# Altium footprint library Componentes.PcbLib: 20 footprints (part 1 of 2)
Each footprint in its own frame and in the unit in brackets; x right, y up, seen from the top. Pads: shape width x height; smd on the part's side, far side on the other; paste and mask are expansions set on the pad; w line width, h text height; cw(c..) or ccw(c..) is an arc to the next point about the centre after c.
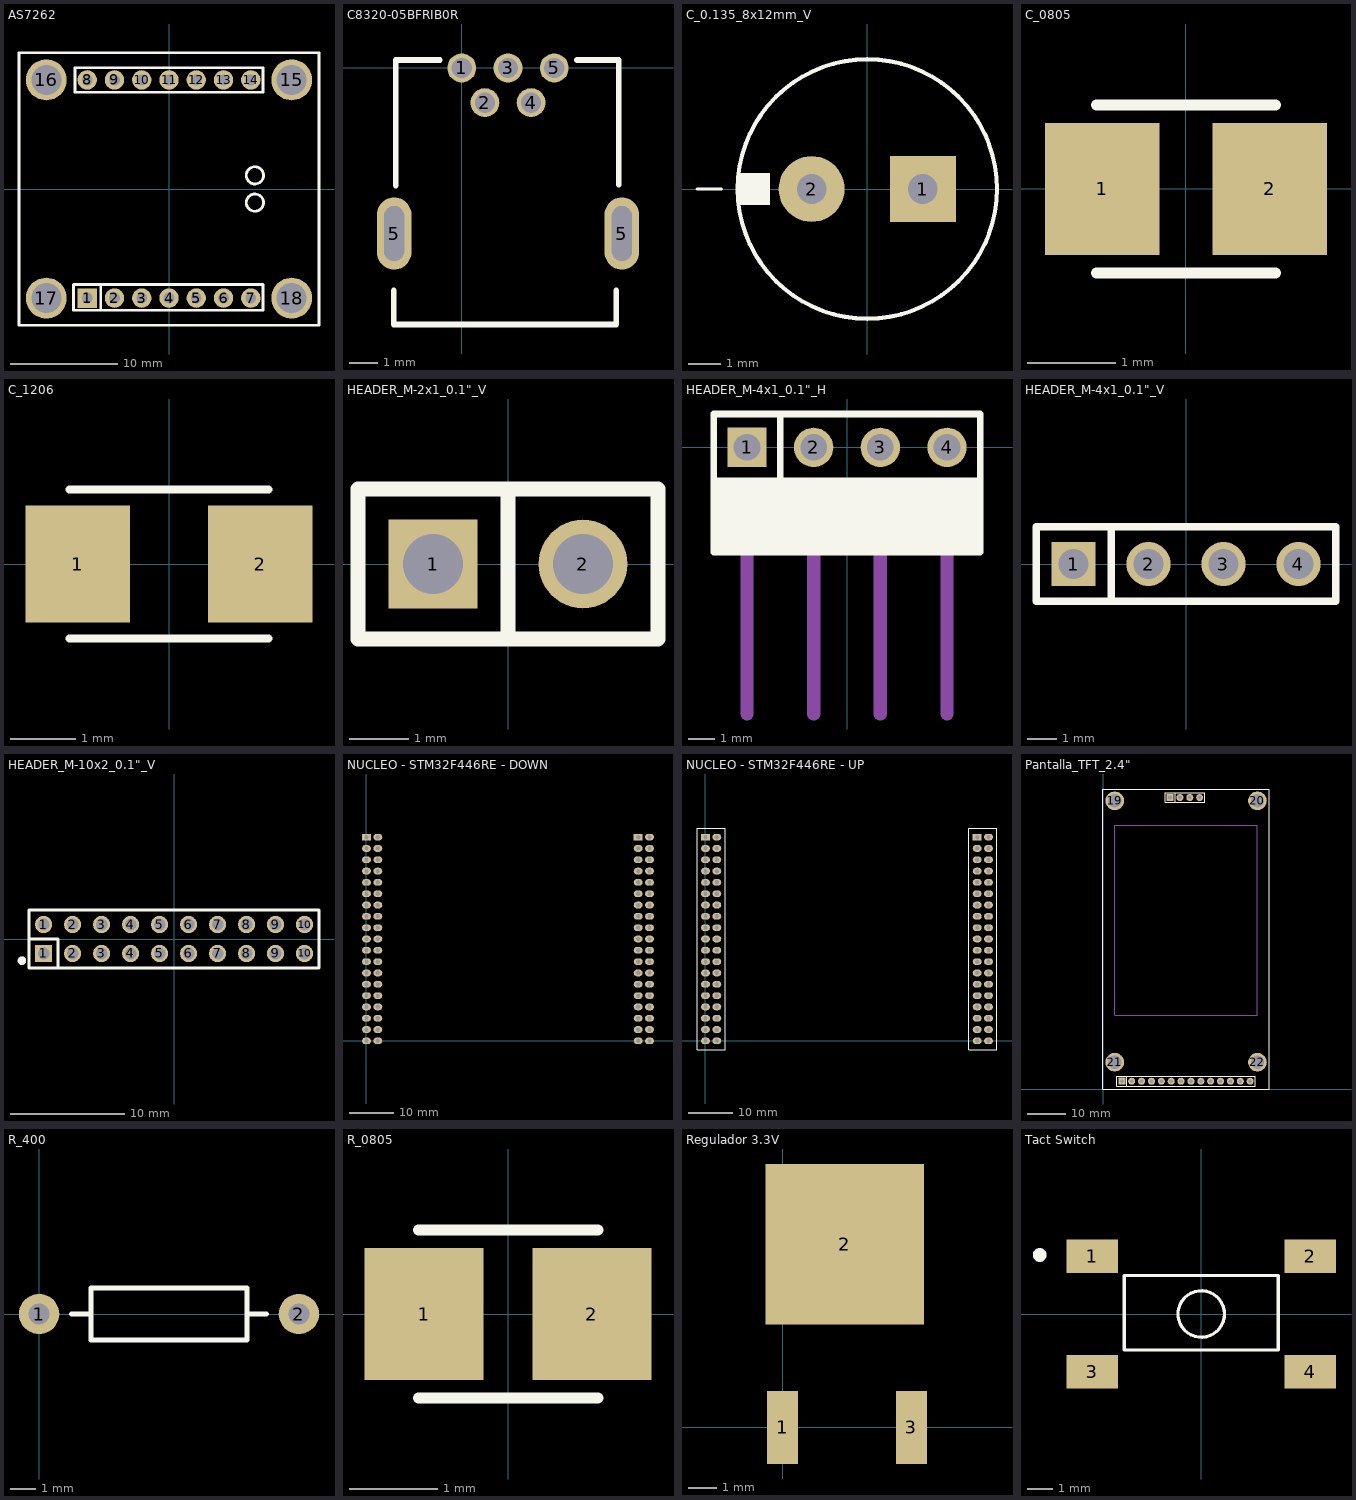
[diagram p0: the footprints below, top view; thin cyan lines are the x and y axes]

## AS7262 [mm] "AS7262 Sensor 6 Channels"
pads (18):
  rect 1.8x1.8 hole 1: 1(-7.62,-10.16)
  round 1.8 hole 1: 2(-5.08,-10.16) 3(-2.54,-10.16) 4(0,-10.16) 5(2.54,-10.16) 6(5.08,-10.16) 7(7.62,-10.16) 8(-7.62,10.16) 9(-5.08,10.16) 10(-2.54,10.16) 11(0,10.16) 12(2.54,10.16) 13(5.08,10.16) 14(7.62,10.16)
  round 3.81 hole 2.794: 15(11.43,10.16) 16(-11.43,10.16) 17(-11.43,-10.16) 18(11.43,-10.16)
Top Overlay:
  circle w0.254: c8.001,1.27 r0.803
  circle w0.254: c8.001,-1.27 r0.803
  lines w0.254: -6.35,-11.176 -6.35,-9.017 ; -13.97,-12.7 -8.89,-12.7 -8.128,-12.7 13.97,-12.7 13.97,12.7 9.398,12.7 -9.271,12.7 -13.97,12.7 -13.97,-12.7 ; -8.89,-11.303 8.763,-11.303 8.763,-8.89 -8.89,-8.89 -8.89,-11.303 ; -8.763,9.017 -8.763,9.271 -8.763,11.303 8.763,11.303 8.763,9.017 -8.763,9.017
3D body: height 0, standoff 0, extent -14.097,-12.827 14.097,12.827

## C8320-05BFRIB0R [mm] "Conector Hembra MINI USB - B - THT"
pads (7):
  round 1 hole 0.7: 1(0,0) 2(0.8,-1.2) 3(1.6,0) 4(2.4,-1.2) 5(3.2,0)
  oval 1.2x2.5 hole 0.7 slot 1.9 at 90 deg: 5(-2.34,-5.73) 5(5.54,-5.73)
Top Overlay:
  lines w0.2: -2.351,-7.696 -2.351,-8.876 5.349,-8.876 5.349,-7.696 ; -2.286,-4.064 -2.286,0.254 ; -2.286,0.279 -0.762,0.279 ; 3.987,0.279 5.436,0.279 5.436,-4.039
Top Designator:
  text ".Designator" at -3.5,-4.55 h1
3D body "54-00019--3DModel-STEP-510211.STEP": height 4, standoff -1.9, extent -2.25,-8.877 5.45,0.323

## C_0.135_8x12mm_V [mil] "Capacitor 8x12mm. 0.135mm pitch. Vertical."
height 551.18
pads (2):
  rect 80x80 hole 36: 1(67.5,0)
  round 80 hole 36: 2(-67.5,0)
Top Overlay:
  circle w5: c0,0 r157.48
  rectangle: -157.48,-19.68 -118.11,19.69
  lines w4: -206.69,0 -177.17,0
3D body "User Library-Cap-EL(8x12-3_5)T.STEP": height 484.33, standoff -129.92, extent -157.56,-157.41 157.48,157.4

## C_0805 [mm] "Chip Capacitor, 2-Leads, Body 2.00x1.25mm"
height 1.1
pads (2):
  rect 1.3x1.5 smd: 1(-0.95,0) 2(0.95,0)
Top Overlay:
  lines w0.127: -1.016,-0.953 1.016,-0.953 ; -1.016,0.953 1.016,0.953
3D body "SW3dPS-0805 SMD Capacitor.STEP": height 0.78, standoff 0, extent -1,-0.625 1,0.625

## C_1206 [mm] "Capacitor 1206 smd."
height 1.35
pads (2):
  rect 1.6x1.8 smd: 1(-1.4,0) 2(1.4,0)
Top Overlay:
  lines w0.127: -1.524,-1.143 1.524,-1.143 ; -1.524,1.143 1.524,1.143
3D body "SW3dPS-1206 SMD Capacitor.STEP": height 1, standoff 0, extent -1.6,-0.8 1.6,0.8

## HEADER_M-2x1_0.1"_V [mm] "Tira de pines 2 vias. Paso de 2.54mm"
height 8.4
pads (2):
  rect 1.5x1.5 hole 1.016: 1(-1.27,0)
  round 1.5 hole 1.016: 2(1.27,0)
Top Overlay:
  lines w0.254: 0,-1.27 0,1.27 ; -2.54,-1.27 2.54,-1.27 2.54,1.27 -2.54,1.27 -2.54,-1.27
3D body "User Library-Header_Male_2Pin.STEP": height 8.54, standoff -3, extent -2.54,-1.245 2.54,1.245

## HEADER_M-4x1_0.1"_H [mm] "Tira de pines 4x1. Paso de 2.54mm. Horizontal."
height 2.54
pads (4):
  rect 1.5x1.5 hole 1.016: 1(-3.81,0)
  round 1.5 hole 1.016: 2(-1.27,0) 3(1.27,0) 4(3.81,0)
Top Overlay:
  rectangle: -5.08,-4 -2.54,-1.27
  rectangle: -2.54,-4 0,-1.27
  rectangle: 0,-4 2.54,-1.27
  rectangle: 2.54,-4 5.08,-1.27
  lines w0.254: -2.54,1.27 -2.54,-1.27 ; -5.08,-1.27 5.08,-1.27 ; -5.08,-1.27 -5.08,1.27 5.08,1.27 5.08,-1.27 ; -5.08,-1.27 -5.08,-4 -2.54,-4 ; -2.54,-4 -2.54,-1.27 ; -2.54,-4 -2.54,-1.27 ; -2.54,-4 0,-4 ; 0,-4 0,-1.27 0,-4 ; 0,-4 2.54,-4 ; 2.54,-4 2.54,-1.27 2.54,-4 ; 2.54,-4 5.08,-4 5.08,-1.27
Mechanical 13:
  lines w0.508: -3.81,-10.16 -3.81,-4.064 ; -1.27,-10.16 -1.27,-4.064 ; 1.27,-10.16 1.27,-4.064 ; 3.81,-10.16 3.81,-4.064
3D body "User Library-m0003083.step": height 3.76, standoff -4.72, extent 0,-9.938 5.08,0.286
3D body "User Library-m0003083.step": height 3.76, standoff -4.72, extent -5.08,-9.938 0,0.286

## HEADER_M-4x1_0.1"_V [mm] "Tira de pines 2x2. Paso de 2.54mm"
height 8.4
pads (4):
  rect 1.5x1.5 hole 1.016: 1(-3.81,0)
  round 1.5 hole 1.016: 2(-1.27,0) 3(1.27,0) 4(3.81,0)
Top Overlay:
  lines w0.254: -2.54,-1.27 -2.54,1.27 ; -5.08,-1.27 -5.08,1.27 5.08,1.27 5.08,-1.27 -5.08,-1.27
3D body "SIP4.step": height 8.38, standoff -2.54, extent -5.08,-1.27 5.08,1.27

## HEADER_M-10x2_0.1"_V [mm] "Tira de pines 10x2. Paso de 2.54mm"
height 8.4
pads (20):
  rect 1.5x1.5 hole 1.016: 1(-11.43,-1.27)
  round 1.5 hole 1.016: 1(-11.43,1.27) 2(-8.89,-1.27) 2(-8.89,1.27) 3(-6.35,-1.27) 3(-6.35,1.27) 4(-3.81,-1.27) 4(-3.81,1.27) 5(-1.27,-1.27) 5(-1.27,1.27) 6(1.27,-1.27) 6(1.27,1.27) 7(3.81,-1.27) 7(3.81,1.27) 8(6.35,-1.27) 8(6.35,1.27) 9(8.89,-1.27) 9(8.89,1.27) 10(11.43,-1.27) 10(11.43,1.27)
Top Overlay:
  circle w0.254: c-13.335,-1.905 r0.254
  circle w0.254: c-13.423,-1.905 r0.125
  lines w0.254: -12.7,0 -10.16,0 -10.16,-2.54 ; -12.7,-2.54 12.7,-2.54 12.7,2.54 -12.7,2.54 -12.7,-2.54
3D body "SIP3_2.step": height 10.1, standoff -1.5, extent 5.088,-2.565 12.708,2.515
3D body "SIP3_2.step": height 10.1, standoff -1.5, extent 0.008,-2.565 7.628,2.515
3D body "SIP3_2.step": height 10.1, standoff -1.5, extent -7.612,-2.565 0.008,2.515
3D body "SIP3_2.step": height 10.1, standoff -1.5, extent -12.692,-2.565 -5.072,2.515

## NUCLEO - STM32F446RE - DOWN [mm] "NUCLEO - STM32F446RE - DOWN"
pads (76):
  rect 2x1.5 hole 1: 1(0,45.72) 39(60.96,45.72)
  oval 2x1.5 hole 1: 2(2.54,45.72) 3(0,43.18) 4(2.54,43.18) 5(0,40.64) 6(2.54,40.64) 7(0,38.1) 8(2.54,38.1) 9(0,35.56) 10(2.54,35.56) 11(0,33.02) 12(2.54,33.02) 13(0,30.48) 14(2.54,30.48) 15(0,27.94) 16(2.54,27.94) 17(0,25.4) 18(2.54,25.4) 19(0,22.86) 20(2.54,22.86) 21(0,20.32) 22(2.54,20.32) 23(0,17.78) 24(2.54,17.78) 25(0,15.24) 26(2.54,15.24) 27(0,12.7) 28(2.54,12.7) 29(0,10.16) 30(2.54,10.16) 31(0,7.62) 32(2.54,7.62) 33(0,5.08) 34(2.54,5.08) 35(0,2.54) 36(2.54,2.54) 37(0,0) 38(2.54,0) 40(63.5,45.72) 41(60.96,43.18) 42(63.5,43.18) 43(60.96,40.64) 44(63.5,40.64) 45(60.96,38.1) 46(63.5,38.1) 47(60.96,35.56) 48(63.5,35.56) 49(60.96,33.02) 50(63.5,33.02) 51(60.96,30.48) 52(63.5,30.48) 53(60.96,27.94) 54(63.5,27.94) 55(60.96,25.4) 56(63.5,25.4) 57(60.96,22.86) 58(63.5,22.86) 59(60.96,20.32) 60(63.5,20.32) 61(60.96,17.78) 62(63.5,17.78) 63(60.96,15.24) 64(63.5,15.24) 65(60.96,12.7) 66(63.5,12.7) 67(60.96,10.16) 68(63.5,10.16) 69(60.96,7.62) 70(63.5,7.62) 71(60.96,5.08) 72(63.5,5.08) 73(60.96,2.54) 74(63.5,2.54) 75(60.96,0) 76(63.5,0)
Bottom Overlay:
  lines w0.2: -1.905,-2.032 -1.905,47.752 4.445,47.752 4.445,-2.032 -1.905,-2.032 ; 59.055,-2.032 59.055,47.752 65.405,47.752 65.405,-2.032 59.055,-2.032
Top Designator:
  text ".Designator" at -3.703,48.74 h1
3D body "38-Pin Header - Female - Double - 2.54mm.step": height 8.5, standoff -3, extent -1.225,-1.52 3.775,47.24
3D body "38-Pin Header - Female - Double - 2.54mm.step": height 8.5, standoff -3, extent 59.735,-1.52 64.735,47.24

## NUCLEO - STM32F446RE - UP [mm] "NUCLEO - STM32F446RE - UP"
pads (76):
  rect 2x1.5 hole 1: 1(0,45.72) 39(60.96,45.72)
  oval 2x1.5 hole 1: 2(2.54,45.72) 3(0,43.18) 4(2.54,43.18) 5(0,40.64) 6(2.54,40.64) 7(0,38.1) 8(2.54,38.1) 9(0,35.56) 10(2.54,35.56) 11(0,33.02) 12(2.54,33.02) 13(0,30.48) 14(2.54,30.48) 15(0,27.94) 16(2.54,27.94) 17(0,25.4) 18(2.54,25.4) 19(0,22.86) 20(2.54,22.86) 21(0,20.32) 22(2.54,20.32) 23(0,17.78) 24(2.54,17.78) 25(0,15.24) 26(2.54,15.24) 27(0,12.7) 28(2.54,12.7) 29(0,10.16) 30(2.54,10.16) 31(0,7.62) 32(2.54,7.62) 33(0,5.08) 34(2.54,5.08) 35(0,2.54) 36(2.54,2.54) 37(0,0) 38(2.54,0) 40(63.5,45.72) 41(60.96,43.18) 42(63.5,43.18) 43(60.96,40.64) 44(63.5,40.64) 45(60.96,38.1) 46(63.5,38.1) 47(60.96,35.56) 48(63.5,35.56) 49(60.96,33.02) 50(63.5,33.02) 51(60.96,30.48) 52(63.5,30.48) 53(60.96,27.94) 54(63.5,27.94) 55(60.96,25.4) 56(63.5,25.4) 57(60.96,22.86) 58(63.5,22.86) 59(60.96,20.32) 60(63.5,20.32) 61(60.96,17.78) 62(63.5,17.78) 63(60.96,15.24) 64(63.5,15.24) 65(60.96,12.7) 66(63.5,12.7) 67(60.96,10.16) 68(63.5,10.16) 69(60.96,7.62) 70(63.5,7.62) 71(60.96,5.08) 72(63.5,5.08) 73(60.96,2.54) 74(63.5,2.54) 75(60.96,0) 76(63.5,0)
Top Overlay:
  lines w0.2: -1.905,-2.032 4.445,-2.032 4.445,47.752 -1.905,47.752 -1.905,-2.032 ; 59.055,-2.032 59.055,47.752 65.405,47.752 65.405,-2.032 59.055,-2.032
Top Designator:
  text ".Designator" at -3.398,48.409 h1
3D body "step_temp.STEP": height 22.28, standoff 1.58, extent -3.325,-5.08 66.675,78.87

## Pantalla_TFT_2.4" [mm] "Pantalla TFT 2.4\""
pads (22):
  rect 1.8x1.8 hole 1: 1(4.826,2.032) 15(17.23,75.01)
  round 1.8 hole 1: 2(7.366,2.032) 3(9.906,2.032) 4(12.446,2.032) 5(14.986,2.032) 6(17.526,2.032) 7(20.066,2.032) 8(22.606,2.032) 9(25.146,2.032) 10(27.686,2.032) 11(30.226,2.032) 12(32.766,2.032) 13(35.306,2.032) 14(37.846,2.032) 16(19.77,75.01) 17(22.31,75.01) 18(24.85,75.01)
  round 4.8 hole 3.4: 19(3,74.18) 20(39.72,74.18) 21(3,6.92) 22(39.72,6.92)
Top Overlay:
  lines w0.254: 3.048,77.216 4.191,77.216 ; 6.096,0.889 6.096,3.175 ; 18.542,73.787 18.542,76.073 ; -0.024,0.032 -0.024,77.212 42.696,77.212 42.696,0.032 -0.024,0.032 ; 3.556,0.762 3.556,3.302 39.116,3.302 39.116,0.762 3.556,0.762 ; 16.002,73.787 26.162,73.787 26.162,76.2 16.383,76.2 16.002,76.2 16.002,73.787
Mechanical 13:
  lines w0.254: 3,18.96 39.72,18.96 39.72,67.92 3,67.92 3,18.96
3D body "TFT LCD 2.4 inch ILI9341 touch.step": height 5.8, standoff -8.6, extent -0.023,0 42.672,77.155

## R_400 [mil] "resistance THT 1/4W. Vertical."
height 157.48
pads (2):
  round 62 hole 32: 1(0,0) 2(400,0)
Top Overlay:
  lines w7.87: 50,0 80,0 ; 320,0 350,0 ; 80,-40 80,40 320,40 320,-40 80,-40
3D body "RES400.step": height 95.48, standoff -119.69, extent -12,-45 412,46

## R_0805 [mm] "Chip Resistor, 2-Leads, Body 2.00x1.25mm, IPC Low Density"
height 0.65
pads (2):
  rect 1.35x1.5 smd: 1(-0.95,0) 2(0.95,0)
Top Overlay:
  lines w0.127: -1.016,-0.953 1.016,-0.953 ; -1.016,0.953 1.016,0.953
3D body "User Library-CR2012-0805.STEP": height 0.6, standoff 0, extent -1,-0.625 1,0.625
3D body: height 0.75, standoff 0, extent -0.475,-0.025 -0.475,-0.025

## Regulador 3.3V [mm] "L117 3.3V"
pads (3):
  rect 1.1x2.6 smd: 1(0,0) 3(4.572,0)
  rect 5.632x5.7 smd: 2(2.2,6.5)

## Tact Switch [mm] "Tact Swtitch, 6x6mm"
pads (4):
  rect 2x1.3 smd: 1(-4.25,2.25) 2(4.25,2.25) 3(-4.25,-2.25) 4(4.25,-2.25)
Top Overlay:
  circle w0.254: c-6.3,2.3 r0.141
  circle w0.125: c0,0 r0.906
  lines w0.127: -3,-1.4 -3,1.5 3,1.5 3,-1.4 -3,-1.4